# Altium schematic symbol library SchLib1.SchLib: 31 symbols
Pins are listed as number, name and electrical type; pins without a type are passive.

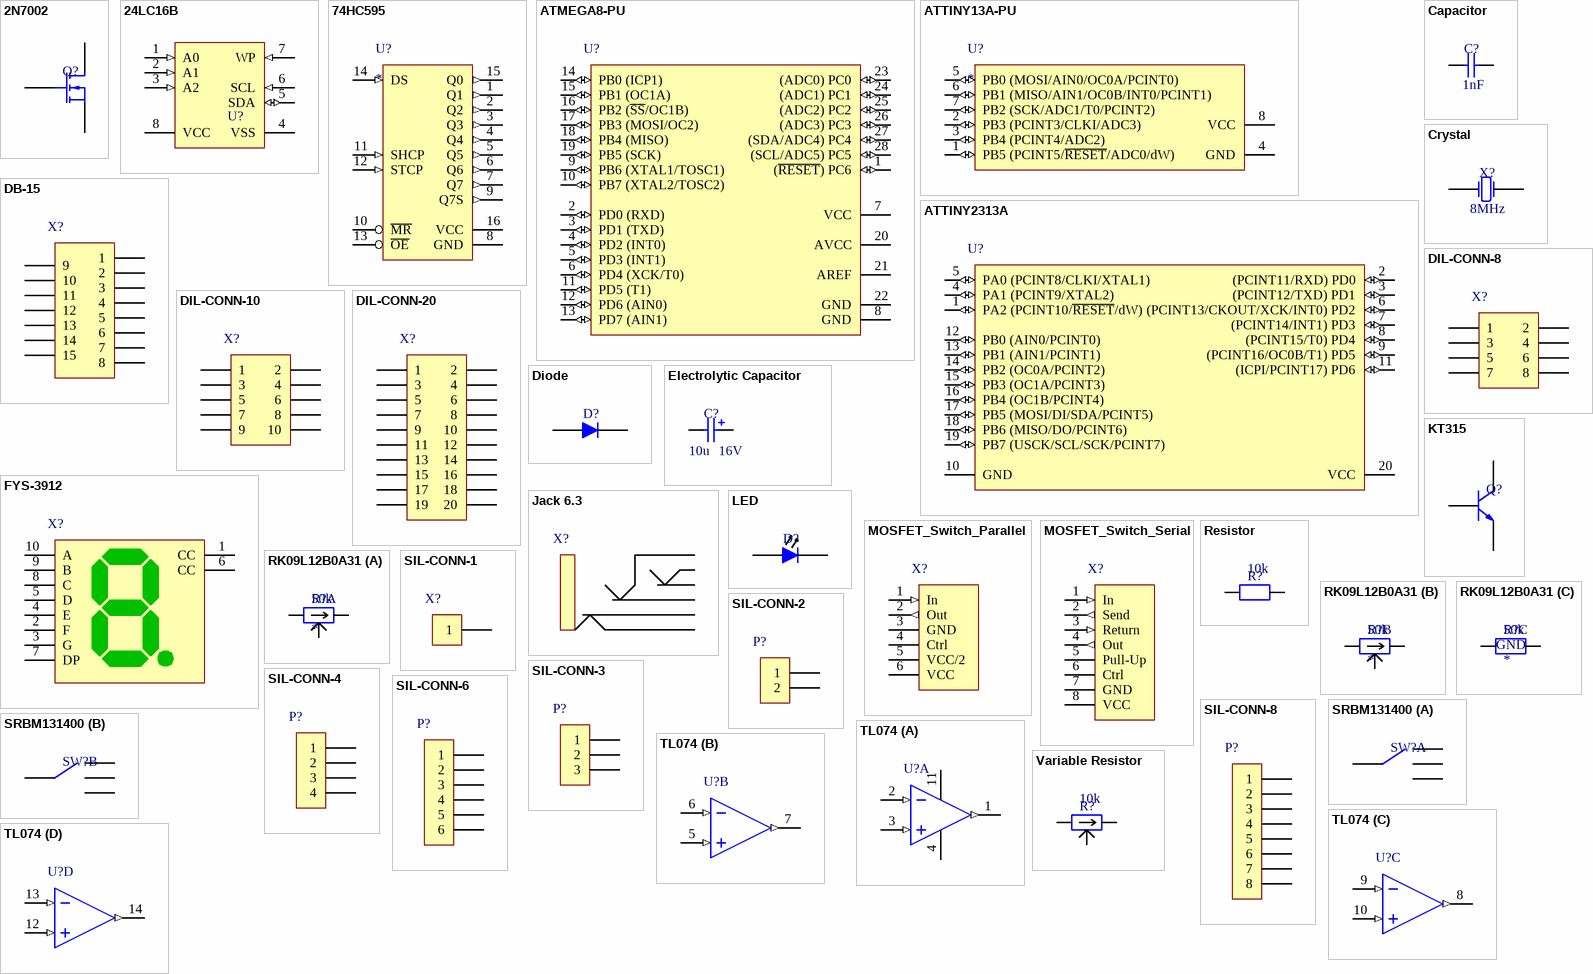
[diagram p0: symbols 2N7002 to Variable Resistor]

## 2N7002
designator Q?  (value not drawn)
footprint SOT23-3; pin to pad D>1 G>2 S>3
pins: D, G, S

## 24LC16B
designator U?  (value not drawn)
footprint DIP8
pins: 1 A0 (in), 2 A1 (in), 3 A2 (in), 4 VSS (power), 5 SDA (io), 6 SCL (in), 7 WP (in), 8 VCC (power)

## 74HC595
designator U?
footprint SOIC16
pins: 1 Q1 (out), 2 Q2 (out), 3 Q3 (out), 4 Q4 (out), 5 Q5 (out), 6 Q6 (out), 7 Q7 (out), 8 GND (power), 9 Q7S (out), 10 ~{MR}, 11 SHCP (in), 12 STCP (in), 13 ~{OE}, 14 DS (in), 15 Q0 (out), 16 VCC (power)

## ATMEGA8-PU
designator U?  (value not drawn)
footprint DIP28_Narrow
pins: 1 (~{RESET}) PC6 (io), 2 PD0 (RXD) (io), 3 PD1 (TXD) (io), 4 PD2 (INT0) (io), 5 PD3 (INT1) (io), 6 PD4 (XCK/T0) (io), 7 VCC (power), 8 GND (power), 9 PB6 (XTAL1/TOSC1) (io), 10 PB7 (XTAL2/TOSC2) (io), 11 PD5 (T1) (io), 12 PD6 (AIN0) (io), 13 PD7 (AIN1) (io), 14 PB0 (ICP1) (io), 15 PB1 (OC1A) (io), 16 PB2 (~{SS}/OC1B) (io), 17 PB3 (MOSI/OC2) (io), 18 PB4 (MISO) (io), 19 PB5 (SCK) (io), 20 AVCC (power), 21 AREF, 22 GND (power), 23 (ADC0) PC0 (io), 24 (ADC1) PC1 (io), 25 (ADC2) PC2 (io), 26 (ADC3) PC3 (io), 27 (SDA/ADC4) PC4 (io), 28 (SCL/ADC5) PC5 (io)

## ATTINY13A-PU
designator U?
footprint DIP8
pins: 1 PB5 (PCINT5/~{RESET}/ADC0/dW) (io), 2 PB3 (PCINT3/CLKI/ADC3) (io), 3 PB4 (PCINT4/ADC2) (io), 4 GND (power), 5 PB0 (MOSI/AIN0/OC0A/PCINT0) (io), 6 PB1 (MISO/AIN1/OC0B/INT0/PCINT1) (io), 7 PB2 (SCK/ADC1/T0/PCINT2) (io), 8 VCC (power)

## ATTINY2313A
designator U?  (value not drawn)
footprint SOIC20
pins: 1 PA2 (PCINT10/~{RESET}/dW) (io), 2 (PCINT11/RXD) PD0 (io), 3 (PCINT12/TXD) PD1 (io), 4 PA1 (PCINT9/XTAL2) (io), 5 PA0 (PCINT8/CLKI/XTAL1) (io), 6 (PCINT13/CKOUT/XCK/INT0) PD2 (io), 7 (PCINT14/INT1) PD3 (io), 8 (PCINT15/T0) PD4 (io), 9 (PCINT16/OC0B/T1) PD5 (io), 10 GND (power), 11 (ICPI/PCINT17) PD6 (io), 12 PB0 (AIN0/PCINT0) (io), 13 PB1 (AIN1/PCINT1) (io), 14 PB2 (OC0A/PCINT2) (io), 15 PB3 (OC1A/PCINT3) (io), 16 PB4 (OC1B/PCINT4) (io), 17 PB5 (MOSI/DI/SDA/PCINT5) (io), 18 PB6 (MISO/DO/PCINT6) (io), 19 PB7 (USCK/SCL/SCK/PCINT7) (io), 20 VCC (power)

## Capacitor
designator C?  value 1nF  (hidden comment: *)
simulation model Model Name (Model Description)
footprint 0805_Capacitor
pins: 1, 2

## Crystal
designator X?  Frequency: 8MHz  (hidden comment: *)
simulation model Model Name (Model Description)
footprint HC49
pins: 1, 2

## DB-15
designator X?  (value not drawn)
footprint DB15F
footprint DB15M
pins: 1, 2, 3, 4, 5, 6, 7, 8, 9, 10, 11, 12, 13, 14, 15

## DIL-CONN-8
designator X?  (value not drawn)
footprint DIL-CONN-IDC-8
footprint DIL-CONN-IDC-8R
pins: 1, 2, 3, 4, 5, 6, 7, 8

## DIL-CONN-10
designator X?  (value not drawn)
footprint DIL-CONN-IDC-10
pins: 1, 2, 3, 4, 5, 6, 7, 8, 9, 10

## DIL-CONN-20
designator X?  (value not drawn)
footprint DIL-CONN-IDC-20
footprint DIL-CONN-IDC-20R
pins: 1, 2, 3, 4, 5, 6, 7, 8, 9, 10, 11, 12, 13, 14, 15, 16, 17, 18, 19, 20

## Diode
designator D?  (value not drawn)
footprint DO35
pins: A, K

## Electrolytic Capacitor
designator C?  value 10u  Initial Voltage: 16V  (hidden comment: *)
simulation model Model Name (Model Description)
footprint ELEC_RAD10
pins: +, -

## FYS-3912
designator X?  (value not drawn)
footprint FYS-3916
pins: 1 CC, 2 F, 3 G, 4 E, 5 D, 6 CC, 7 DP, 8 C, 9 B, 10 A

## Jack 6.3
designator X?  (value not drawn)
footprint Jack 6.3
pins: 1, 2, 3, 4, 5, 6

## KT315
designator Q?  (value not drawn)
footprint KT315; pin to pad B>3 E>1 K>2
pins: B, E, K

## LED
designator D?  (value not drawn)
footprint LED-R1
footprint LED-R2
footprint LED
pins: A, K

## MOSFET_Switch_Parallel
designator X?  (value not drawn)
footprint MOSFET_Switch_Parallel
pins: 1 In (in), 2 Out (out), 3 GND (power), 4 Ctrl (hiz), 5 VCC/2 (power), 6 VCC

## MOSFET_Switch_Serial
designator X?  (value not drawn)
footprint MOSFET_Switch_Serial
pins: 1 In (in), 2 Send (out), 3 Return (in), 4 Out (out), 5 Pull-Up (power), 6 Ctrl (hiz), 7 GND (power), 8 VCC

## Resistor
designator R?  value 10k  (hidden comment: *)
simulation model Model Name (Model Description)
footprint 0805_Resistor
pins: 1, 2

## RK09L12B0A31
designator R?  value 50k
simulation model Model Name (Model Description)
footprint RK09L12B0A31
part A pins: 1, 2, 3
part B pins: 4, 5, 6
part C pins: 7, 8
part C text: GND

## SIL-CONN-1
designator X?  (value not drawn)
footprint SIL-CONN-1
pins: 1

## SIL-CONN-2
designator P?  (value not drawn)
footprint SIL-CONN-2
footprint SIL-CONN-2-jumper
pins: 1, 2

## SIL-CONN-3
designator P?  (value not drawn)
footprint SIL-CONN-3
footprint SIL-CONN-3-R1
footprint SIL-CONN-3-R2
pins: 1, 2, 3

## SIL-CONN-4
designator P?  (value not drawn)
footprint SIL-CONN-4
footprint SIL-CONN-4-R1
footprint SIL-CONN-4-R2
pins: 1, 2, 3, 4

## SIL-CONN-6
designator P?  (value not drawn)
footprint SIL-CONN-6
footprint SIL-CONN-6-R1
footprint SIL-CONN-6-R2
pins: 1, 2, 3, 4, 5, 6

## SIL-CONN-8
designator P?  (value not drawn)
footprint SIL-CONN-8
footprint SIL-CONN-8-R1
footprint SIL-CONN-8-R2
pins: 1, 2, 3, 4, 5, 6, 7, 8

## SRBM131400
designator SW?  (value not drawn)
footprint SRBM131400
part A pins: 1, 2, 3, 4
part B pins: 6, 7, 8, 10

## TL074
designator U?  (value not drawn)
footprint DIP14
part A pins: 1 O (out), 2 - (in), 3 + (in), 4 (power), 11 (power)
part B pins: 5 + (in), 6 - (in), 7 O (out)
part C pins: 8 O (out), 9 - (in), 10 + (in)
part D pins: 12 + (in), 13 - (in), 14 O (out)

## Variable Resistor
designator R?  value 10k  (hidden comment: *)
simulation model Model Name (Model Description)
footprint Variable Resistor
pins: 1, 2, 3